# Altium schematic symbol library PNP_B1E2C3-3.A1.SCHLIB: 1 symbol
Pins are listed as number, name and electrical type; pins without a type are passive.

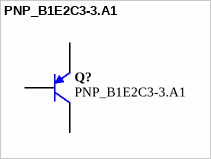
[diagram p0: symbol PNP_B1E2C3-3.A1]

## PNP_B1E2C3-3.A1
designator Q?
pins: 1 B, 2 E, 3 C